# EAGLE library part 2624-3512 (library con-wago_2624)
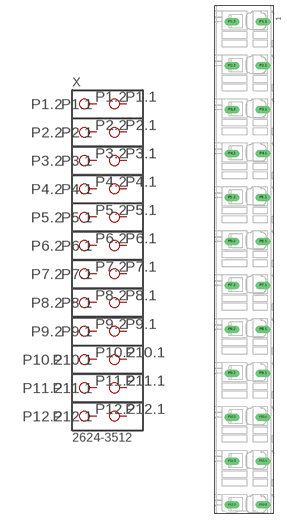
[diagram p59: symbol with the pads of P-2624-3512; footprint P-2624-3512]

Designator prefix X

## 2624-3512  [P-2624-3512]
P1.1  P1.1
P1.2  P1.2
P2.1  P2.1
P2.2  P2.2
P3.1  P3.1
P3.2  P3.2
P4.1  P4.1
P4.2  P4.2
P5.1  P5.1
P5.2  P5.2
P6.1  P6.1
P6.2  P6.2
P7.1  P7.1
P7.2  P7.2
P8.1  P8.1
P8.2  P8.2
P9.1  P9.1
P9.2  P9.2
P10.1  P10.1
P10.2  P10.2
P11.1  P11.1
P11.2  P11.2
P12.1  P12.1
P12.2  P12.2

## Footprint P-2624-3512 (pad centres in mm)
drill 1.3 pad 1.93 long: P1.1 0,-2.7; P1.2 -8.2,-2.7; P2.1 0,-14.2; P2.2 -8.2,-14.2; P3.1 0,-25.7; P3.2 -8.2,-25.7; P4.1 0,-37.2; P4.2 -8.2,-37.2; P5.1 0,-48.7; P5.2 -8.2,-48.7; P6.1 0,-60.2; P6.2 -8.2,-60.2; P7.1 0,-71.7; P7.2 -8.2,-71.7; P8.1 0,-83.2; P8.2 -8.2,-83.2; P9.1 0,-94.7; P9.2 -8.2,-94.7; P10.1 0,-106.2; P10.2 -8.2,-106.2; P11.1 0,-117.7; P11.2 -8.2,-117.7; P12.1 0,-129.2; P12.2 -8.2,-129.2